# Altium schematic symbol library UV16 PDU.SchLib: 16 symbols
Pins are listed as number, name and electrical type; pins without a type are passive.

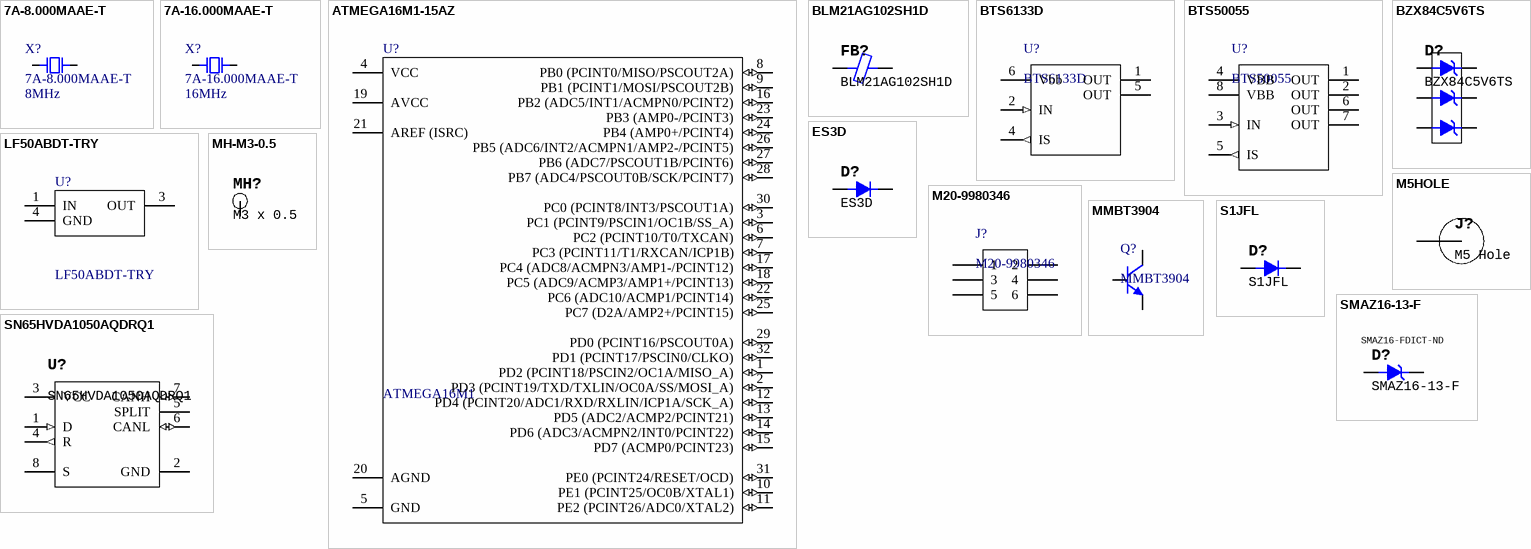
[diagram p0: symbols 7A-8.000MAAE-T to SN65HVDA1050AQDRQ1]

## 7A-8.000MAAE-T
designator X?  value 8MHz
SMD Crystal Oscillator 12 pF; Load Capacitance: 12pF; Supplier 1: Digi-Key; Supplier Part Number 1: 887-1740-1-ND
footprint TXC 7A (SMD Crystal)
pins: 1, 2

## 7A-16.000MAAE-T
designator X?  value 16MHz
SMD Crystal Oscillator 12 pF; Load Capacitance: 12pF; Supplier 1: Digi-Key; Supplier Part Number 1: 887-1747-1-ND
footprint TXC 7A (SMD Crystal)
pins: 1, 2

## ATMEGA16M1-15AZ
designator U?, comment ATMEGA16M1
Supplier 1: Digi-Key; Supplier 2: Mouser; Supplier Part Number 1: ATMEGA16M1-15AZCT-ND; Supplier Part Number 2: 556-ATMEGA16M1-15AZ
footprint 32-TQFP-7x7-0.8 (Thin QFP, 32-Leads, Body 7x7mm, Pitch 0.8mm, IPC Medium Density)
pins: 1 PD2 (PCINT18/PSCIN2/OC1A/MISO_A) (io), 2 PD3 (PCINT19/TXD/TXLIN/OC0A/SS/MOSI_A) (io), 3 PC1 (PCINT9/PSCIN1/OC1B/SS_A) (io), 4 VCC (power), 5 GND (power), 6 PC2 (PCINT10/T0/TXCAN) (io), 7 PC3 (PCINT11/T1/RXCAN/ICP1B) (io), 8 PB0 (PCINT0/MISO/PSCOUT2A) (io), 9 PB1 (PCINT1/MOSI/PSCOUT2B) (io), 10 PE1 (PCINT25/OC0B/XTAL1) (io), 11 PE2 (PCINT26/ADC0/XTAL2) (io), 12 PD4 (PCINT20/ADC1/RXD/RXLIN/ICP1A/SCK_A) (io), 13 PD5 (ADC2/ACMP2/PCINT21) (io), 14 PD6 (ADC3/ACMPN2/INT0/PCINT22) (io), 15 PD7 (ACMP0/PCINT23) (io), 16 PB2 (ADC5/INT1/ACMPN0/PCINT2) (io), 17 PC4 (ADC8/ACMPN3/AMP1-/PCINT12) (io), 18 PC5 (ADC9/ACMP3/AMP1+/PCINT13) (io), 19 AVCC (power), 20 AGND (power), 21 AREF (ISRC) (power), 22 PC6 (ADC10/ACMP1/PCINT14) (io), 23 PB3 (AMP0-/PCINT3) (io), 24 PB4 (AMP0+/PCINT4) (io), 25 PC7 (D2A/AMP2+/PCINT15) (io), 26 PB5 (ADC6/INT2/ACMPN1/AMP2-/PCINT5) (io), 27 PB6 (ADC7/PSCOUT1B/PCINT6) (io), 28 PB7 (ADC4/PSCOUT0B/SCK/PCINT7) (io), 29 PD0 (PCINT16/PSCOUT0A) (io), 30 PC0 (PCINT8/INT3/PSCOUT1A) (io), 31 PE0 (PCINT24/RESET/OCD) (io), 32 PD1 (PCINT17/PSCIN0/CLKO) (io)

## BLM21AG102SH1D
designator FB?
Supplier 1: Digi-Key; Supplier Part Number 1: 490-10664-1-ND
footprint INDC2012X11N (Chip Inductor, 2-Leads, Body 2.00x1.25mm, IPC Medium Density)
pins: 1, 2

## BTS6133D
designator U?
Supplier 1: Digi-Key; Supplier Part Number 1: BTS6133DCT-ND
footprint PG-TO220-5-11 (D-PAK, 5-Pads, Body 6.21x6.69mm (max), IPC Medium Density)
pins: 1 OUT (power) "Output to the load. The pins1,2,6 and 7 must be shorted with each other especially in high current applications!", 2 IN (in) "Input, activates the power switch in case of short to ground", 4 IS (out) "Diagnostic feedback providing a sense current proportional to the load current; zero current on failure (see Truth Table on page 7)", 5 OUT (power) "Output to the load. The pins1,2,6 and 7 must be shorted with each other especially in high current applications!", 6 Vbb (power) "Positive power supply voltage, the tab is electrically connected to this pin. In high current applications the tab should be used for the Vbb connection instead of this pin"

## BTS50055
designator U?
Supplier 1: Digi-Key; Supplier Part Number 1: BTS50055-1TMACT-ND
footprint P/PG-TO220-7-4 (DPAK, 7-Leads, Body 10x9.25mm, Pitch 1.27mm, IPC Low Density)
pins: 1 OUT (power) "Output to the load. The pins1,2,6 and 7 must be shorted with each other especially in high current applications!", 2 OUT (power) "Output to the load. The pins1,2,6 and 7 must be shorted with each other especially in high current applications!", 3 IN (in) "Input, activates the power switch in case of short to ground", 4 VBB (power) "Positive power supply voltage, the tab is electrically connected to this pin. In high current applications the tab should be used for the Vbb connection instead of this pin", 5 IS (out) "Diagnostic feedback providing a sense current proportional to the load current; zero current on failure (see Truth Table on page 7)", 6 OUT (power) "Output to the load. The pins1,2,6 and 7 must be shorted with each other especially in high current applications!", 7 OUT (power) "Output to the load. The pins1,2,6 and 7 must be shorted with each other especially in high current applications!", 8 VBB

## BZX84C5V6TS
designator D?
Supplier 1: Digi-Key; Supplier Part Number 1: BZX84C5V6TS-FDICT-ND
footprint SOT65P210X110-6N (SOT23, 6-Leads, Body 2.00x2.10mm, Pitch 0.65mm, IPC Medium Density)
pins: 1 A1, 2 A2, 3 A3, 4 C3, 5 C2, 6 C1

## ES3D
designator D?
Supplier 1: Mouser; Supplier Part Number 1: 512-ES3D
footprint DIOM6959X26M (Molded Diode, 2-Leads, Body 6.88x5.90mm, IPC Low Density)
pins: 1 K, 2 A

## LF50ABDT-TRY
designator U?
Supplier 1: Digi-Key; Supplier Part Number 1: 497-10199-1-ND
footprint TO-252-3 (D-PAK, 4-Leads, Body 6.1x6.5mm, Pitch 2.28mm, Lead Span 9.7mm, IPC Low Density)
pins: 1 IN (power), 3 OUT (power), 4 GND

## M5HOLE
designator J?, comment M5 Hole
footprint M5Hole
pins: 0

## M20-9980346
designator J?
2.54mm Header 2x3-Pin; Supplier 1: Digi-Key; Supplier Part Number 1: 952-2121-ND
footprint M20-9980346
pins: 1, 2, 3, 4, 5, 6

## MH-M3-0.5
designator MH?, comment M3 x 0.5
footprint MH-M3-0.5
pins: 0

## MMBT3904
designator Q?
Supplier 1: Digi-Key; Supplier Part Number 1: MMBT3904LT1GOSCT-ND
footprint SOT23-3 (SOT23, 3-Leads, Body 2.92x1.3mm, Pitch 0.95mm)
pins: 1 B, 2 E, 3 C

## S1JFL
designator D?
Supplier 1: Digi-Key; Supplier Part Number 1: ES1JFLCT-ND
footprint DIOM3617X11M (Molded Diode, 2-Leads, Body 3.60x1.72mm, IPC Low Density)
pins: 1 K, 2 A

## SMAZ16-13-F
designator D?  Supplier Part Number 1: SMAZ16-FDICT-ND
Supplier 1: Digi-Key
footprint DIOM4326X23M (Molded Diode, 2-Leads, Body 4.30x2.60mm, IPC Low Density)
pins: 1 K, 2 A

## SN65HVDA1050AQDRQ1
designator U?
CAN transceiver; Supplier 1: Digi-Key; Supplier Part Number 1: 296-25836-1-ND
footprint SOIC127P600X175-8M (SOIC, 8-Leads, Body 4.90x3.90mm, Pitch 1.27mm, IPC Low Density)
pins: 1 D (in) "Driver input", 2 GND (power) "Ground", 3 VCC (power) "Supply voltage", 4 R (out) "Receiver output", 5 SPLIT "No connection", 6 CANL (io) "Low bus output", 7 CANH (io) "High bus outpu", 8 S "No connection"